# EAGLE library part LM3524 (library TI)
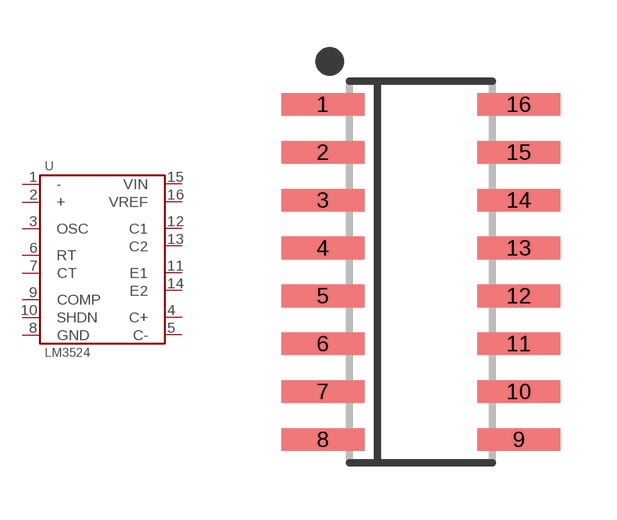
[diagram p16: symbol with the pads of SOIC-16; footprint SOIC-16]

Designator prefix U

## LM3524DMX/NOPB  [SOIC-16]
1  -
2  +
3  OSC
4  C+
5  C-
6  RT
7  CT
8  GND
9  COMP
10  SHDN
11  E1
12  C1
13  C2
14  E2
15  VIN
16  VREF

## Footprint SOIC-16 (pad centres in mm)
smd 2.2 x 0.6: 1 -2.6,4.445; 2 -2.6,3.175; 3 -2.6,1.905; 4 -2.6,0.635; 5 -2.6,-0.635; 6 -2.6,-1.905; 7 -2.6,-3.175; 8 -2.6,-4.445; 9 2.6,-4.445; 10 2.6,-3.175; 11 2.6,-1.905; 12 2.6,-0.635; 13 2.6,0.635; 14 2.6,1.905; 15 2.6,3.175; 16 2.6,4.445